# EAGLE library part TEA5767 (library Custom)
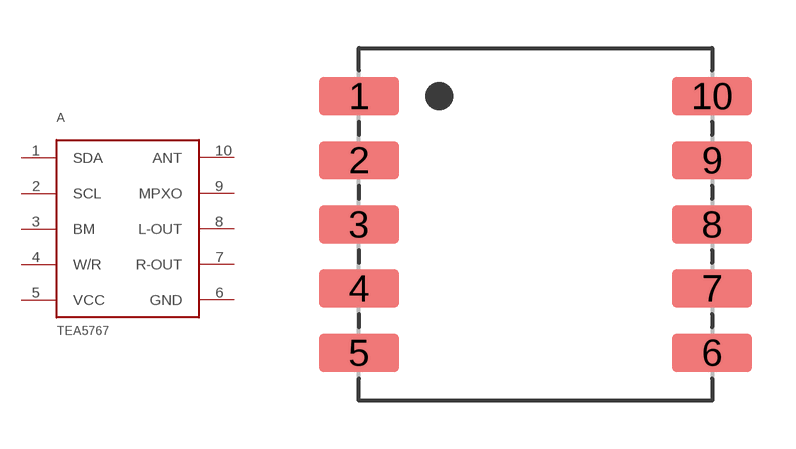
[diagram p1: symbol with the pads of TEA5767; footprint TEA5767]

Designator prefix A

## TEA5767  [TEA5767]
1  SDA
2  SCL
3  BM
4  W/R
5  VCC
6  GND
7  R-OUT
8  L-OUT
9  MPXO
10  ANT

## Footprint TEA5767 (pad centres in mm)
smd 2.5 x 1.2: 1 -5.5,4; 2 -5.5,2; 3 -5.5,0; 4 -5.5,-2; 5 -5.5,-4; 6 5.5,-4; 7 5.5,-2; 8 5.5,0; 9 5.5,2; 10 5.5,4